# Altium integrated library TI Data Converters Analog to Digital Converter.IntLib: 2198 symbols (part 136 of 164)
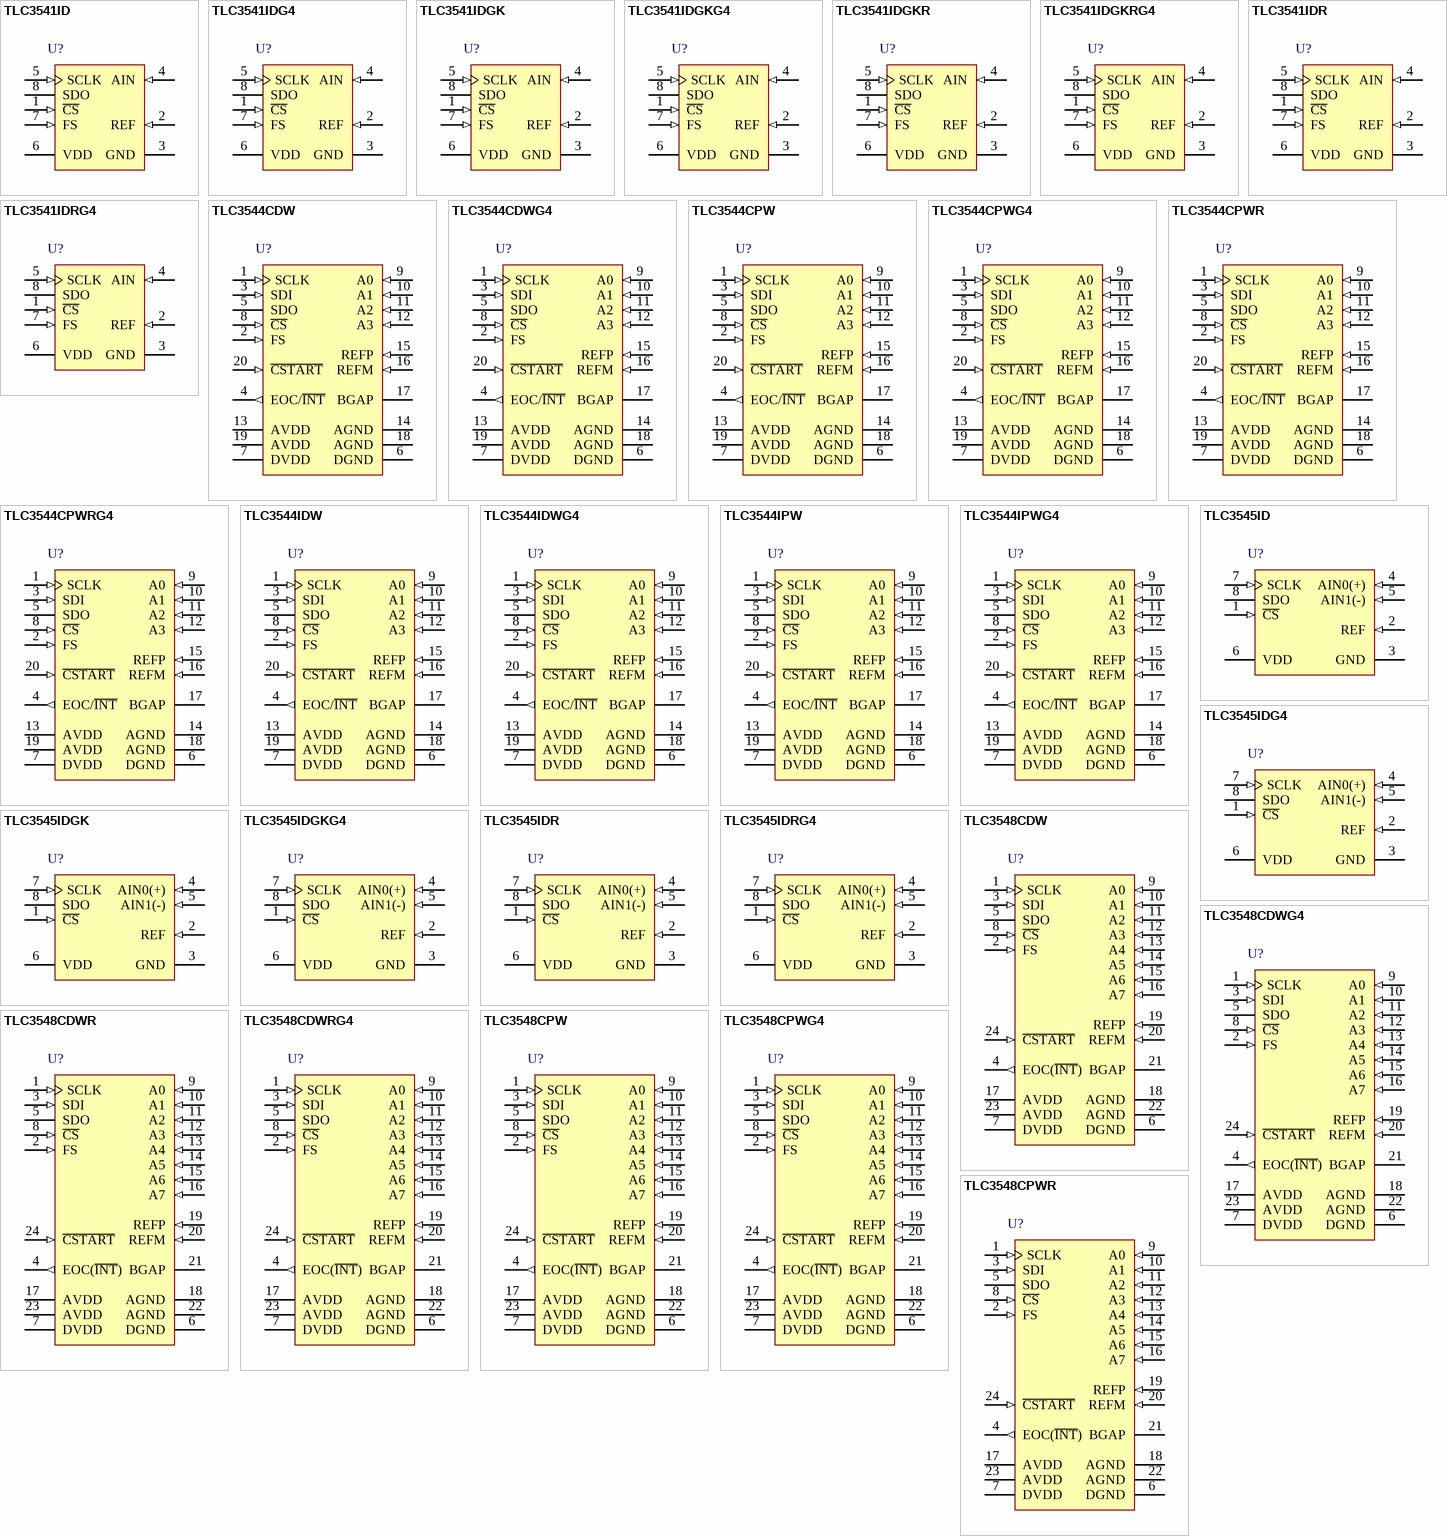
[diagram p261: symbols TLC3541ID to TLC3548CPWR]

## TLC3544IPWG4
designator U?
14-Bit, 5 V, 200 kSPS, 4-Channel Unipolar ADC, -40 to 85 degC, 20-pin SOP (PW20), Green (RoHS & no Sb/Br); Manufacturer: Texas Instruments; PartNumber: TLC3544IPWG4; # Input Channels: 4; Analog Voltage AV/DD(Max)(V): 5.5; Analog Voltage AV/DD(Min)(V): 4.5; Architecture: SAR; Digital Supply(Min)(V): 2.7; ENOB(Bits): 13.1; INL(Max)(+/-LSB): 1; Interface: Serial SPI; Resolution(Bits): 14; Sample Rate (max)(SPS): 200k; SFDR(dB): 97; SINAD(dB): 80.8; SNR(dB): 81; SubFamily: Precision ADC (<=10MSPS); DatasheetVersion: SLAS266C; PackageVersion: 4040064-5/G, 02/2011; PackageReference: PW20; PackageDescription: 20-Pin Plastic Small Outline, Body 6.5 x 4.4 mm, Pitch 0.65 mm; Supplier 1: Digi-Key; Supplier Part Number 1: 296-2858-5-ND; Digital Supply(Max)(V): 5.5; Eco-Plan: Green (RoHS & no Sb/Br); Mounting Technology: Surface Mount; Code_JEDEC: MO-153; ComponentLink1Description: Manufacturer URL; ComponentLink1URL: http://www.ti.com/; ComponentLink2Description: Datasheet; ComponentLink2URL: http://www.ti.com/general/docs/lit/getliterature.tsp?genericPartNumber=TLC3544&fileType=pdf; ComponentLink3Description: Package Specification; ComponentLink3URL: http://www.ti.com.cn/cn/lit/ml/mpds362/mpds362.pdf
footprint TI-PW20_N (SOP, 20-Leads, Body 6.5x4.4mm, Pitch 0.65mm, IPC Medium Density)
footprint TI-PW20_L (SOP, 20-Leads, Body 6.5x4.4mm, Pitch 0.65mm, IPC High Density)
footprint TI-PW20_M (SOP, 20-Leads, Body 6.5x4.4mm, Pitch 0.65mm, IPC Low Density)
pins: 1 SCLK (in) "Serial clock input from the host processor to clock in the input from SDI and clock out the output via SDO. It can also be used as the conversion clock source when the external conversion clock is selected (see Table 2). (See Datasheet)", 2 FS (in) "Frame sync input from DSP. The rising edge of FS indicates the start of a serial data frame being transferred (coming into or being sent out of the device). If FS is low at the falling edge of C\S\, the rising edge of FS (See Datasheet)", 3 SDI (in) "Serial data input. The first 4 MSBs, ID[15:12], are decoded as one 4-bit command. All trailing bits, except for the CONFIGURE WRITE command, are filled with zeros. The CONFIGURE WRITE command requires additional 12-bit data. (See Datasheet)", 4 EOC/~{INT} (out), 5 SDO (hiz) "The 3-state serial output for the A/D conversion result. All data bits are shifted out through SDO. SDO is in the high-impedance state when C\S\ is high. SDO is released after a C\S\ falling edge. The output format is MSB (See Datasheet)", 6 DGND (power) "Digital ground return for the internal circuitry", 7 DVDD (power) "Digital supply voltage", 8 ~{CS} (in) "Chip select. When C\S\ is high, SDO is in high-impedance state, SDI is ignored, and SCLK is disabled to clock data but works as conversion clock source if programmed. The falling edge of C\S\ input resets the internal 4-bit (See Datasheet)", 9 A0 (in) "Analog signal inputs. Analog input signals applied to these terminals are internally multiplexed. The driving source impedance should be less than or equal to 1 kohm for normal sampling. For larger source impedance, use the (See Datasheet)", 10 A1 (in) "Analog signal inputs. Analog input signals applied to these terminals are internally multiplexed. The driving source impedance should be less than or equal to 1 kohm for normal sampling. For larger source impedance, use the (See Datasheet)", 11 A2 (in) "Analog signal inputs. Analog input signals applied to these terminals are internally multiplexed. The driving source impedance should be less than or equal to 1 kohm for normal sampling. For larger source impedance, use the (See Datasheet)", 12 A3 (in) "Analog signal inputs. Analog input signals applied to these terminals are internally multiplexed. The driving source impedance should be less than or equal to 1 kohm for normal sampling. For larger source impedance, use the (See Datasheet)", 13 AVDD (power) "Analog supply voltage", 14 AGND (power) "Analog ground return for the internal circuitry. Unless otherwise noted, all analog voltage measurements are with respect to AGND.", 15 REFP (in) "External positive reference input. When an external reference is used, the range of maximum input voltage is determined by the difference between the voltage applied to this terminal and to the REFM terminal. Always install (See Datasheet)", 16 REFM (in) "External low reference input. Connect REFM to AGND.", 17 BGAP "Internal bandgap compensation pin. Install compensation capacitors between BGAP and AGND. 0.1 uF for external reference; 10 uF in parallel with 0.1 uF for internal reference.", 18 AGND (power) "Analog ground return for the internal circuitry. Unless otherwise noted, all analog voltage measurements are with respect to AGND.", 19 AVDD (power) "Analog supply voltage", 20 ~{CSTART} (in) "External sampling trigger signal, which initiates the sampling from a selected analog input channel when the device works in extended sampling mode (asynchronous sampling). A high-to-low transition starts the sampling of the (See Datasheet)"

## TLC3545ID
designator U?
14-Bit 200 kSPS ADC Serial Out, Auto Power Down, Pseudo Differential Input, -40 to 85 degC, 8-pin SOIC (D8), Green (RoHS & no Sb/Br); Manufacturer: Texas Instruments; PartNumber: TLC3545ID; # Input Channels: 1; Analog Voltage AV/DD(Max)(V): 5.5; Analog Voltage AV/DD(Min)(V): 4.5; Architecture: SAR; ENOB(Bits): 13.2; Interface: Serial SPI; Resolution(Bits): 14; Sample Rate (max)(SPS): 200k; SFDR(dB): 95; SINAD(dB): 81.5; SNR(dB): 82; SubFamily: Precision ADC (<=10MSPS); DatasheetVersion: SLAS345; PackageVersion: 4040047-3/M, 06/2011; PackageReference: D8; PackageDescription: 8-Pin Plastic Small Outline, Body 4.9 x 3.9 mm, Pitch 1.27 mm; Supplier 1: Digi-Key; Supplier Part Number 1: TLC0832CPE4-ND; Digital Supply(Max)(V): 5.5; Digital Supply(Min)(V): 4.5; Eco-Plan: Green (RoHS & no Sb/Br); INL(Max)(+/-LSB): 1; Mounting Technology: Surface Mount; Code_JEDEC: MS-012; ComponentLink1Description: Manufacturer URL; ComponentLink1URL: http://www.ti.com/; ComponentLink2Description: Datasheet; ComponentLink2URL: http://www.ti.com/general/docs/lit/getliterature.tsp?genericPartNumber=TLC3545&fileType=pdf; ComponentLink3Description: Package Specification; ComponentLink3URL: http://www.ti.com/litv/pdf/msoi002j
footprint TI-D8_N (SOIC, 8-Leads, Body 4.9x3.9mm, Pitch 1.27mm, IPC Medium Density)
footprint TI-D8_L (SOIC, 8-Leads, Body 4.9x3.9mm, Pitch 1.27mm, IPC High Density)
footprint TI-D8_M (SOIC, 8-Leads, Body 4.9x3.9mm, Pitch 1.27mm, IPC Low Density)
pins: 1 ~{CS} (in) "Chip select. A high-to-low transition on C\S\ removes SDO from the high-impedance state within a maximum delay time. The C\S\ input can be connected to a DSP frame sync (FS) output when a dedicated TMS320 DSP serial port is (See Datasheet)", 2 REF (in) "External voltage reference input", 3 GND (power) "Ground return for the internal circuitry. Unless otherwise noted, all voltage measurements are with respect to GND.", 4 AIN0(+) (in) "Positive analog input", 5 AIN1(-) (in) "Inverted analog input", 6 VDD (power) "Positive supply voltage", 7 SCLK (in) "Serial clock. This terminal receives the serial SCLK from the host processor.", 8 SDO (hiz) "The 3-state serial data output for the A/D conversion result. SDO is kept in the high-impedance state when C\S\ is high and presents output data after the C\S\ falling edge until the LSB is presented. The output format is (See Datasheet)"

## TLC3545IDG4
designator U?
14-Bit 200 kSPS ADC Serial Out, Auto Power Down, Pseudo Differential Input, -40 to 85 degC, 8-pin SOIC (D8), Green (RoHS & no Sb/Br); Manufacturer: Texas Instruments; PartNumber: TLC3545IDG4; # Input Channels: 1; Analog Voltage AV/DD(Max)(V): 5.5; Analog Voltage AV/DD(Min)(V): 4.5; Architecture: SAR; ENOB(Bits): 13.2; Interface: Serial SPI; Resolution(Bits): 14; Sample Rate (max)(SPS): 200k; SFDR(dB): 95; SINAD(dB): 81.5; SNR(dB): 82; SubFamily: Precision ADC (<=10MSPS); DatasheetVersion: SLAS345; PackageVersion: 4040047-3/M, 06/2011; PackageReference: D8; PackageDescription: 8-Pin Plastic Small Outline, Body 4.9 x 3.9 mm, Pitch 1.27 mm; Supplier 1: Digi-Key; Supplier Part Number 1: 296-2859-5-ND; Digital Supply(Max)(V): 5.5; Digital Supply(Min)(V): 4.5; Eco-Plan: Green (RoHS & no Sb/Br); INL(Max)(+/-LSB): 1; Mounting Technology: Surface Mount; Code_JEDEC: MS-012; ComponentLink1Description: Manufacturer URL; ComponentLink1URL: http://www.ti.com/; ComponentLink2Description: Datasheet; ComponentLink2URL: http://www.ti.com/general/docs/lit/getliterature.tsp?genericPartNumber=TLC3545&fileType=pdf; ComponentLink3Description: Package Specification; ComponentLink3URL: http://www.ti.com/litv/pdf/msoi002j
footprint TI-D8_N (SOIC, 8-Leads, Body 4.9x3.9mm, Pitch 1.27mm, IPC Medium Density)
footprint TI-D8_L (SOIC, 8-Leads, Body 4.9x3.9mm, Pitch 1.27mm, IPC High Density)
footprint TI-D8_M (SOIC, 8-Leads, Body 4.9x3.9mm, Pitch 1.27mm, IPC Low Density)
pins: 1 ~{CS} (in) "Chip select. A high-to-low transition on C\S\ removes SDO from the high-impedance state within a maximum delay time. The C\S\ input can be connected to a DSP frame sync (FS) output when a dedicated TMS320 DSP serial port is (See Datasheet)", 2 REF (in) "External voltage reference input", 3 GND (power) "Ground return for the internal circuitry. Unless otherwise noted, all voltage measurements are with respect to GND.", 4 AIN0(+) (in) "Positive analog input", 5 AIN1(-) (in) "Inverted analog input", 6 VDD (power) "Positive supply voltage", 7 SCLK (in) "Serial clock. This terminal receives the serial SCLK from the host processor.", 8 SDO (hiz) "The 3-state serial data output for the A/D conversion result. SDO is kept in the high-impedance state when C\S\ is high and presents output data after the C\S\ falling edge until the LSB is presented. The output format is (See Datasheet)"

## TLC3545IDGK
designator U?
14-Bit 200 kSPS ADC Serial Out, Auto Power Down, Pseudo Differential Input, -40 to 85 degC, 8-pin SOP (DGK8), Green (RoHS & no Sb/Br); Manufacturer: Texas Instruments; PartNumber: TLC3545IDGK; # Input Channels: 1; Analog Voltage AV/DD(Max)(V): 5.5; Analog Voltage AV/DD(Min)(V): 4.5; Architecture: SAR; ENOB(Bits): 13.2; Interface: Serial SPI; Resolution(Bits): 14; Sample Rate (max)(SPS): 200k; SFDR(dB): 95; SINAD(dB): 81.5; SNR(dB): 82; SubFamily: Precision ADC (<=10MSPS); DatasheetVersion: SLAS345; PackageVersion: 4073329/E, 05/2006; PackageReference: DGK8; PackageDescription: 8-Pin Thin Small Outline, Body 3 x 3 mm, Pitch 0.65 mm; Supplier 1: Digi-Key; Supplier Part Number 1: TLC0832IDG4-ND; Digital Supply(Max)(V): 5.5; Digital Supply(Min)(V): 4.5; Eco-Plan: Green (RoHS & no Sb/Br); INL(Max)(+/-LSB): 1; Mounting Technology: Surface Mount; Code_JEDEC: MO-187; ComponentLink1Description: Manufacturer URL; ComponentLink1URL: http://www.ti.com/; ComponentLink2Description: Datasheet; ComponentLink2URL: http://www.ti.com/general/docs/lit/getliterature.tsp?genericPartNumber=TLC3545&fileType=pdf; ComponentLink3Description: Package Specification; ComponentLink3URL: http://www.ti.com/litv/pdf/mpds028d
footprint TI-DGK8_N (SOP, 8-Leads, Body 3x3mm, Pitch 0.65mm, IPC Medium Density)
footprint TI-DGK8_L (SOP, 8-Leads, Body 3x3mm, Pitch 0.65mm, IPC High Density)
footprint TI-DGK8_M (SOP, 8-Leads, Body 3x3mm, Pitch 0.65mm, IPC Low Density)
pins: 1 ~{CS} (in) "Chip select. A high-to-low transition on C\S\ removes SDO from the high-impedance state within a maximum delay time. The C\S\ input can be connected to a DSP frame sync (FS) output when a dedicated TMS320 DSP serial port is (See Datasheet)", 2 REF (in) "External voltage reference input", 3 GND (power) "Ground return for the internal circuitry. Unless otherwise noted, all voltage measurements are with respect to GND.", 4 AIN0(+) (in) "Positive analog input", 5 AIN1(-) (in) "Inverted analog input", 6 VDD (power) "Positive supply voltage", 7 SCLK (in) "Serial clock. This terminal receives the serial SCLK from the host processor.", 8 SDO (hiz) "The 3-state serial data output for the A/D conversion result. SDO is kept in the high-impedance state when C\S\ is high and presents output data after the C\S\ falling edge until the LSB is presented. The output format is (See Datasheet)"

## TLC3545IDGKG4
designator U?
14-Bit 200 kSPS ADC Serial Out, Auto Power Down, Pseudo Differential Input, -40 to 85 degC, 8-pin SOP (DGK8), Green (RoHS & no Sb/Br); Manufacturer: Texas Instruments; PartNumber: TLC3545IDGKG4; # Input Channels: 1; Analog Voltage AV/DD(Max)(V): 5.5; Analog Voltage AV/DD(Min)(V): 4.5; Architecture: SAR; ENOB(Bits): 13.2; Interface: Serial SPI; Resolution(Bits): 14; Sample Rate (max)(SPS): 200k; SFDR(dB): 95; SINAD(dB): 81.5; SNR(dB): 82; SubFamily: Precision ADC (<=10MSPS); DatasheetVersion: SLAS345; PackageVersion: 4073329/E, 05/2006; PackageReference: DGK8; PackageDescription: 8-Pin Thin Small Outline, Body 3 x 3 mm, Pitch 0.65 mm; Supplier 1: Digi-Key; Supplier Part Number 1: TLC0832IDR-ND; Digital Supply(Max)(V): 5.5; Digital Supply(Min)(V): 4.5; Eco-Plan: Green (RoHS & no Sb/Br); INL(Max)(+/-LSB): 1; Mounting Technology: Surface Mount; Code_JEDEC: MO-187; ComponentLink1Description: Manufacturer URL; ComponentLink1URL: http://www.ti.com/; ComponentLink2Description: Datasheet; ComponentLink2URL: http://www.ti.com/general/docs/lit/getliterature.tsp?genericPartNumber=TLC3545&fileType=pdf; ComponentLink3Description: Package Specification; ComponentLink3URL: http://www.ti.com/litv/pdf/mpds028d
footprint TI-DGK8_N (SOP, 8-Leads, Body 3x3mm, Pitch 0.65mm, IPC Medium Density)
footprint TI-DGK8_L (SOP, 8-Leads, Body 3x3mm, Pitch 0.65mm, IPC High Density)
footprint TI-DGK8_M (SOP, 8-Leads, Body 3x3mm, Pitch 0.65mm, IPC Low Density)
pins: 1 ~{CS} (in) "Chip select. A high-to-low transition on C\S\ removes SDO from the high-impedance state within a maximum delay time. The C\S\ input can be connected to a DSP frame sync (FS) output when a dedicated TMS320 DSP serial port is (See Datasheet)", 2 REF (in) "External voltage reference input", 3 GND (power) "Ground return for the internal circuitry. Unless otherwise noted, all voltage measurements are with respect to GND.", 4 AIN0(+) (in) "Positive analog input", 5 AIN1(-) (in) "Inverted analog input", 6 VDD (power) "Positive supply voltage", 7 SCLK (in) "Serial clock. This terminal receives the serial SCLK from the host processor.", 8 SDO (hiz) "The 3-state serial data output for the A/D conversion result. SDO is kept in the high-impedance state when C\S\ is high and presents output data after the C\S\ falling edge until the LSB is presented. The output format is (See Datasheet)"

## TLC3545IDR
designator U?
14-Bit 200 kSPS ADC Serial Out, Auto Power Down, Pseudo Differential Input, -40 to 85 degC, 8-pin SOIC (D8), Green (RoHS & no Sb/Br); Manufacturer: Texas Instruments; PartNumber: TLC3545IDR; # Input Channels: 1; Analog Voltage AV/DD(Max)(V): 5.5; Analog Voltage AV/DD(Min)(V): 4.5; Architecture: SAR; ENOB(Bits): 13.2; Interface: Serial SPI; Resolution(Bits): 14; Sample Rate (max)(SPS): 200k; SFDR(dB): 95; SINAD(dB): 81.5; SNR(dB): 82; SubFamily: Precision ADC (<=10MSPS); DatasheetVersion: SLAS345; PackageVersion: 4040047-3/M, 06/2011; PackageReference: D8; PackageDescription: 8-Pin Plastic Small Outline, Body 4.9 x 3.9 mm, Pitch 1.27 mm; Supplier 1: Digi-Key; Supplier Part Number 1: TLC0832IDRG4-ND; Digital Supply(Max)(V): 5.5; Digital Supply(Min)(V): 4.5; Eco-Plan: Green (RoHS & no Sb/Br); INL(Max)(+/-LSB): 1; Mounting Technology: Surface Mount; Code_JEDEC: MS-012; ComponentLink1Description: Manufacturer URL; ComponentLink1URL: http://www.ti.com/; ComponentLink2Description: Datasheet; ComponentLink2URL: http://www.ti.com/general/docs/lit/getliterature.tsp?genericPartNumber=TLC3545&fileType=pdf; ComponentLink3Description: Package Specification; ComponentLink3URL: http://www.ti.com/litv/pdf/msoi002j
footprint TI-D8_N (SOIC, 8-Leads, Body 4.9x3.9mm, Pitch 1.27mm, IPC Medium Density)
footprint TI-D8_L (SOIC, 8-Leads, Body 4.9x3.9mm, Pitch 1.27mm, IPC High Density)
footprint TI-D8_M (SOIC, 8-Leads, Body 4.9x3.9mm, Pitch 1.27mm, IPC Low Density)
pins: 1 ~{CS} (in) "Chip select. A high-to-low transition on C\S\ removes SDO from the high-impedance state within a maximum delay time. The C\S\ input can be connected to a DSP frame sync (FS) output when a dedicated TMS320 DSP serial port is (See Datasheet)", 2 REF (in) "External voltage reference input", 3 GND (power) "Ground return for the internal circuitry. Unless otherwise noted, all voltage measurements are with respect to GND.", 4 AIN0(+) (in) "Positive analog input", 5 AIN1(-) (in) "Inverted analog input", 6 VDD (power) "Positive supply voltage", 7 SCLK (in) "Serial clock. This terminal receives the serial SCLK from the host processor.", 8 SDO (hiz) "The 3-state serial data output for the A/D conversion result. SDO is kept in the high-impedance state when C\S\ is high and presents output data after the C\S\ falling edge until the LSB is presented. The output format is (See Datasheet)"

## TLC3545IDRG4
designator U?
14-Bit 200 kSPS ADC Serial Out, Auto Power Down, Pseudo Differential Input, -40 to 85 degC, 8-pin SOIC (D8), Green (RoHS & no Sb/Br); Manufacturer: Texas Instruments; PartNumber: TLC3545IDRG4; # Input Channels: 1; Analog Voltage AV/DD(Max)(V): 5.5; Analog Voltage AV/DD(Min)(V): 4.5; Architecture: SAR; ENOB(Bits): 13.2; Interface: Serial SPI; Resolution(Bits): 14; Sample Rate (max)(SPS): 200k; SFDR(dB): 95; SINAD(dB): 81.5; SNR(dB): 82; SubFamily: Precision ADC (<=10MSPS); DatasheetVersion: SLAS345; PackageVersion: 4040047-3/M, 06/2011; PackageReference: D8; PackageDescription: 8-Pin Plastic Small Outline, Body 4.9 x 3.9 mm, Pitch 1.27 mm; Supplier 1: Digi-Key; Supplier Part Number 1: 296-2860-5-ND; Digital Supply(Max)(V): 5.5; Digital Supply(Min)(V): 4.5; Eco-Plan: Green (RoHS & no Sb/Br); INL(Max)(+/-LSB): 1; Mounting Technology: Surface Mount; Code_JEDEC: MS-012; ComponentLink1Description: Manufacturer URL; ComponentLink1URL: http://www.ti.com/; ComponentLink2Description: Datasheet; ComponentLink2URL: http://www.ti.com/general/docs/lit/getliterature.tsp?genericPartNumber=TLC3545&fileType=pdf; ComponentLink3Description: Package Specification; ComponentLink3URL: http://www.ti.com/litv/pdf/msoi002j
footprint TI-D8_N (SOIC, 8-Leads, Body 4.9x3.9mm, Pitch 1.27mm, IPC Medium Density)
footprint TI-D8_L (SOIC, 8-Leads, Body 4.9x3.9mm, Pitch 1.27mm, IPC High Density)
footprint TI-D8_M (SOIC, 8-Leads, Body 4.9x3.9mm, Pitch 1.27mm, IPC Low Density)
pins: 1 ~{CS} (in) "Chip select. A high-to-low transition on C\S\ removes SDO from the high-impedance state within a maximum delay time. The C\S\ input can be connected to a DSP frame sync (FS) output when a dedicated TMS320 DSP serial port is (See Datasheet)", 2 REF (in) "External voltage reference input", 3 GND (power) "Ground return for the internal circuitry. Unless otherwise noted, all voltage measurements are with respect to GND.", 4 AIN0(+) (in) "Positive analog input", 5 AIN1(-) (in) "Inverted analog input", 6 VDD (power) "Positive supply voltage", 7 SCLK (in) "Serial clock. This terminal receives the serial SCLK from the host processor.", 8 SDO (hiz) "The 3-state serial data output for the A/D conversion result. SDO is kept in the high-impedance state when C\S\ is high and presents output data after the C\S\ falling edge until the LSB is presented. The output format is (See Datasheet)"

## TLC3548CDW
designator U?
14-Bit, 5 V, 200 kSPS, 8-Channel Unipolar ADC, 0 to 70 degC, 24-pin SOIC (DW24), Green (RoHS & no Sb/Br); Manufacturer: Texas Instruments; PartNumber: TLC3548CDW; # Input Channels: 8; Analog Voltage AV/DD(Max)(V): 5.5; Analog Voltage AV/DD(Min)(V): 4.5; Architecture: SAR; Digital Supply(Min)(V): 2.7; ENOB(Bits): 13.1; INL(Max)(+/-LSB): 1; Interface: Serial SPI; Resolution(Bits): 14; Sample Rate (max)(SPS): 200k; SFDR(dB): 97; SINAD(dB): 80.8; SNR(dB): 81; SubFamily: Precision ADC (<=10MSPS); DatasheetVersion: SLAS266C; PackageVersion: 4040000-5/G, 01/2011; PackageReference: DW24; PackageDescription: 24-Pin Plastic Small Outline, Body 15.4 x 7.5 mm, Pitch 1.27 mm; Supplier 1: Digi-Key; Supplier Part Number 1: TLC0832IPE4-ND; Digital Supply(Max)(V): 5.5; Eco-Plan: Green (RoHS & no Sb/Br); Mounting Technology: Surface Mount; Code_JEDEC: MS-013; ComponentLink1Description: Manufacturer URL; ComponentLink1URL: http://www.ti.com/; ComponentLink2Description: Datasheet; ComponentLink2URL: http://www.ti.com/general/docs/lit/getliterature.tsp?genericPartNumber=TLC3548&fileType=pdf; ComponentLink3Description: Package Specification; ComponentLink3URL: http://www.ti.com/litv/pdf/mpds174a
footprint TI-DW24_N (SOIC, 24-Leads, Body 15.4x7.5mm, Pitch 1.27mm, IPC Medium Density)
footprint TI-DW24_L (SOIC, 24-Leads, Body 15.4x7.5mm, Pitch 1.27mm, IPC High Density)
footprint TI-DW24_M (SOIC, 24-Leads, Body 15.4x7.5mm, Pitch 1.27mm, IPC Low Density)
pins: 1 SCLK (in) "Serial clock input from the host processor to clock in the input from SDI and clock out the output via SDO. It can also be used as the conversion clock source when the external conversion clock is selected (see Table 2). (See Datasheet)", 2 FS (in) "Frame sync input from DSP. The rising edge of FS indicates the start of a serial data frame being transferred (coming into or being sent out of the device). If FS is low at the falling edge of C\S\, the rising edge of FS (See Datasheet)", 3 SDI (in) "Serial data input. The first 4 MSBs, ID[15:12], are decoded as one 4-bit command. All trailing bits,except for the CONFIGURE WRITE command, are filled with zeros. The CONFIGURE WRITE command requires additional 12-bit data. (See Datasheet)", 4 EOC(~{INT}) (out) "End of conversion (EOC) or interrupt to host processor (I\N\T\) EOC: used in conversion mode 00 only. EOC goes from high to low at the end of the sampling and remains low until the conversion is complete and data is ready.(See Datasheet)", 5 SDO (hiz) "The 3-state serial output for the A/D conversion result. All data bits are shifted out through SDO.SDO is in the high-impedance state when C\S\ is high. SDO is released after a C\S\ falling edge. The output format is MSB (See Datasheet)", 6 DGND (power) "Digital ground return for the internal circuitry", 7 DVDD (power) "Digital supply voltage", 8 ~{CS} (in) "Chip select. When C\S\ is high, SDO is in high-impedance state, SDI is ignored, and SCLK is disabled to clock data but works as conversion clock source if programmed. The falling edge of C\S\ input resets the internal 4-bit (See Datasheet)", 9 A0 (in) "Analog signal inputs. Analog input signals applied to these terminals are internally multiplexed. The driving source impedance should be less than or equal to 1 kO for normal sampling. For larger source impedance, use the (See Datasheet)", 10 A1 (in) "Analog signal inputs. Analog input signals applied to these terminals are internally multiplexed. The driving source impedance should be less than or equal to 1 kO for normal sampling. For larger source impedance, use the (See Datasheet)", 11 A2 (in) "Analog signal inputs. Analog input signals applied to these terminals are internally multiplexed. The driving source impedance should be less than or equal to 1 kO for normal sampling. For larger source impedance, use the (See Datasheet)", 12 A3 (in) "Analog signal inputs. Analog input signals applied to these terminals are internally multiplexed. The driving source impedance should be less than or equal to 1 kO for normal sampling. For larger source impedance, use the (See Datasheet)", 13 A4 (in) "Analog signal inputs. Analog input signals applied to these terminals are internally multiplexed. The driving source impedance should be less than or equal to 1 kO for normal sampling. For larger source impedance, use the (See Datasheet)", 14 A5 (in) "Analog signal inputs. Analog input signals applied to these terminals are internally multiplexed. The driving source impedance should be less than or equal to 1 kO for normal sampling. For larger source impedance, use the (See Datasheet)", 15 A6 (in) "Analog signal inputs. Analog input signals applied to these terminals are internally multiplexed. The driving source impedance should be less than or equal to 1 kO for normal sampling. For larger source impedance, use the (See Datasheet)", 16 A7 (in) "Analog signal inputs. Analog input signals applied to these terminals are internally multiplexed. The driving source impedance should be less than or equal to 1 kO for normal sampling. For larger source impedance, use the (See Datasheet)", 17 AVDD (power) "Analog supply voltage", 18 AGND (power) "Analog ground return for the internal circuitry. Unless otherwise noted, all analog voltage measurements are with respect to AGND.", 19 REFP (in) "External positive reference input. When an external reference is used, the range of maximum input voltage is determined by the difference between the voltage applied to this terminal and to the REFM terminal. Always install (See Datasheet)", 20 REFM (in) "External low reference input. Connect REFM to AGND.", 21 BGAP "Internal bandgap compensation pin. Install compensation capacitors between BGAP and AGND.0.1 uF for external reference; 10 uF in parallel with 0.1 uF for internal reference.", 22 AGND (power) "Analog ground return for the internal circuitry. Unless otherwise noted, all analog voltage measurements are with respect to AGND.", 23 AVDD (power) "Analog supply voltage", 24 ~{CSTART} (in) "External sampling trigger signal, which initiates the sampling from a selected analog input channel when the device works in extended sampling mode (asynchronous sampling). A high-to-low transition starts the sampling of the (See Datasheet)"

## TLC3548CDWG4
designator U?
14-Bit, 5 V, 200 kSPS, 8-Channel Unipolar ADC, 0 to 70 degC, 24-pin SOIC (DW24), Green (RoHS & no Sb/Br); Manufacturer: Texas Instruments; PartNumber: TLC3548CDWG4; # Input Channels: 8; Analog Voltage AV/DD(Max)(V): 5.5; Analog Voltage AV/DD(Min)(V): 4.5; Architecture: SAR; Digital Supply(Min)(V): 2.7; ENOB(Bits): 13.1; INL(Max)(+/-LSB): 1; Interface: Serial SPI; Resolution(Bits): 14; Sample Rate (max)(SPS): 200k; SFDR(dB): 97; SINAD(dB): 80.8; SNR(dB): 81; SubFamily: Precision ADC (<=10MSPS); DatasheetVersion: SLAS266C; PackageVersion: 4040000-5/G, 01/2011; PackageReference: DW24; PackageDescription: 24-Pin Plastic Small Outline, Body 15.4 x 7.5 mm, Pitch 1.27 mm; Supplier 1: Digi-Key; Supplier Part Number 1: 296-2865-5-ND; Digital Supply(Max)(V): 5.5; Eco-Plan: Green (RoHS & no Sb/Br); Mounting Technology: Surface Mount; Code_JEDEC: MS-013; ComponentLink1Description: Manufacturer URL; ComponentLink1URL: http://www.ti.com/; ComponentLink2Description: Datasheet; ComponentLink2URL: http://www.ti.com/general/docs/lit/getliterature.tsp?genericPartNumber=TLC3548&fileType=pdf; ComponentLink3Description: Package Specification; ComponentLink3URL: http://www.ti.com/litv/pdf/mpds174a
footprint TI-DW24_N (SOIC, 24-Leads, Body 15.4x7.5mm, Pitch 1.27mm, IPC Medium Density)
footprint TI-DW24_L (SOIC, 24-Leads, Body 15.4x7.5mm, Pitch 1.27mm, IPC High Density)
footprint TI-DW24_M (SOIC, 24-Leads, Body 15.4x7.5mm, Pitch 1.27mm, IPC Low Density)
pins: 1 SCLK (in) "Serial clock input from the host processor to clock in the input from SDI and clock out the output via SDO. It can also be used as the conversion clock source when the external conversion clock is selected (see Table 2). (See Datasheet)", 2 FS (in) "Frame sync input from DSP. The rising edge of FS indicates the start of a serial data frame being transferred (coming into or being sent out of the device). If FS is low at the falling edge of C\S\, the rising edge of FS (See Datasheet)", 3 SDI (in) "Serial data input. The first 4 MSBs, ID[15:12], are decoded as one 4-bit command. All trailing bits,except for the CONFIGURE WRITE command, are filled with zeros. The CONFIGURE WRITE command requires additional 12-bit data. (See Datasheet)", 4 EOC(~{INT}) (out) "End of conversion (EOC) or interrupt to host processor (I\N\T\) EOC: used in conversion mode 00 only. EOC goes from high to low at the end of the sampling and remains low until the conversion is complete and data is ready.(See Datasheet)", 5 SDO (hiz) "The 3-state serial output for the A/D conversion result. All data bits are shifted out through SDO.SDO is in the high-impedance state when C\S\ is high. SDO is released after a C\S\ falling edge. The output format is MSB (See Datasheet)", 6 DGND (power) "Digital ground return for the internal circuitry", 7 DVDD (power) "Digital supply voltage", 8 ~{CS} (in) "Chip select. When C\S\ is high, SDO is in high-impedance state, SDI is ignored, and SCLK is disabled to clock data but works as conversion clock source if programmed. The falling edge of C\S\ input resets the internal 4-bit (See Datasheet)", 9 A0 (in) "Analog signal inputs. Analog input signals applied to these terminals are internally multiplexed. The driving source impedance should be less than or equal to 1 kO for normal sampling. For larger source impedance, use the (See Datasheet)", 10 A1 (in) "Analog signal inputs. Analog input signals applied to these terminals are internally multiplexed. The driving source impedance should be less than or equal to 1 kO for normal sampling. For larger source impedance, use the (See Datasheet)", 11 A2 (in) "Analog signal inputs. Analog input signals applied to these terminals are internally multiplexed. The driving source impedance should be less than or equal to 1 kO for normal sampling. For larger source impedance, use the (See Datasheet)", 12 A3 (in) "Analog signal inputs. Analog input signals applied to these terminals are internally multiplexed. The driving source impedance should be less than or equal to 1 kO for normal sampling. For larger source impedance, use the (See Datasheet)", 13 A4 (in) "Analog signal inputs. Analog input signals applied to these terminals are internally multiplexed. The driving source impedance should be less than or equal to 1 kO for normal sampling. For larger source impedance, use the (See Datasheet)", 14 A5 (in) "Analog signal inputs. Analog input signals applied to these terminals are internally multiplexed. The driving source impedance should be less than or equal to 1 kO for normal sampling. For larger source impedance, use the (See Datasheet)", 15 A6 (in) "Analog signal inputs. Analog input signals applied to these terminals are internally multiplexed. The driving source impedance should be less than or equal to 1 kO for normal sampling. For larger source impedance, use the (See Datasheet)", 16 A7 (in) "Analog signal inputs. Analog input signals applied to these terminals are internally multiplexed. The driving source impedance should be less than or equal to 1 kO for normal sampling. For larger source impedance, use the (See Datasheet)", 17 AVDD (power) "Analog supply voltage", 18 AGND (power) "Analog ground return for the internal circuitry. Unless otherwise noted, all analog voltage measurements are with respect to AGND.", 19 REFP (in) "External positive reference input. When an external reference is used, the range of maximum input voltage is determined by the difference between the voltage applied to this terminal and to the REFM terminal. Always install (See Datasheet)", 20 REFM (in) "External low reference input. Connect REFM to AGND.", 21 BGAP "Internal bandgap compensation pin. Install compensation capacitors between BGAP and AGND.0.1 uF for external reference; 10 uF in parallel with 0.1 uF for internal reference.", 22 AGND (power) "Analog ground return for the internal circuitry. Unless otherwise noted, all analog voltage measurements are with respect to AGND.", 23 AVDD (power) "Analog supply voltage", 24 ~{CSTART} (in) "External sampling trigger signal, which initiates the sampling from a selected analog input channel when the device works in extended sampling mode (asynchronous sampling). A high-to-low transition starts the sampling of the (See Datasheet)"

## TLC3548CDWR
designator U?
14-Bit, 5 V, 200 kSPS, 8-Channel Unipolar ADC, 0 to 70 degC, 24-pin SOIC (DW24), Green (RoHS & no Sb/Br); Manufacturer: Texas Instruments; PartNumber: TLC3548CDWR; # Input Channels: 8; Analog Voltage AV/DD(Max)(V): 5.5; Analog Voltage AV/DD(Min)(V): 4.5; Architecture: SAR; Digital Supply(Min)(V): 2.7; ENOB(Bits): 13.1; INL(Max)(+/-LSB): 1; Interface: Serial SPI; Resolution(Bits): 14; Sample Rate (max)(SPS): 200k; SFDR(dB): 97; SINAD(dB): 80.8; SNR(dB): 81; SubFamily: Precision ADC (<=10MSPS); DatasheetVersion: SLAS266C; PackageVersion: 4040000-5/G, 01/2011; PackageReference: DW24; PackageDescription: 24-Pin Plastic Small Outline, Body 15.4 x 7.5 mm, Pitch 1.27 mm; Supplier 1: Digi-Key; Supplier Part Number 1: TLC0838CDWG4-ND; Digital Supply(Max)(V): 5.5; Eco-Plan: Green (RoHS & no Sb/Br); Mounting Technology: Surface Mount; Code_JEDEC: MS-013; ComponentLink1Description: Manufacturer URL; ComponentLink1URL: http://www.ti.com/; ComponentLink2Description: Datasheet; ComponentLink2URL: http://www.ti.com/general/docs/lit/getliterature.tsp?genericPartNumber=TLC3548&fileType=pdf; ComponentLink3Description: Package Specification; ComponentLink3URL: http://www.ti.com/litv/pdf/mpds174a
footprint TI-DW24_N (SOIC, 24-Leads, Body 15.4x7.5mm, Pitch 1.27mm, IPC Medium Density)
footprint TI-DW24_L (SOIC, 24-Leads, Body 15.4x7.5mm, Pitch 1.27mm, IPC High Density)
footprint TI-DW24_M (SOIC, 24-Leads, Body 15.4x7.5mm, Pitch 1.27mm, IPC Low Density)
pins: 1 SCLK (in) "Serial clock input from the host processor to clock in the input from SDI and clock out the output via SDO. It can also be used as the conversion clock source when the external conversion clock is selected (see Table 2). (See Datasheet)", 2 FS (in) "Frame sync input from DSP. The rising edge of FS indicates the start of a serial data frame being transferred (coming into or being sent out of the device). If FS is low at the falling edge of C\S\, the rising edge of FS (See Datasheet)", 3 SDI (in) "Serial data input. The first 4 MSBs, ID[15:12], are decoded as one 4-bit command. All trailing bits,except for the CONFIGURE WRITE command, are filled with zeros. The CONFIGURE WRITE command requires additional 12-bit data. (See Datasheet)", 4 EOC(~{INT}) (out) "End of conversion (EOC) or interrupt to host processor (I\N\T\) EOC: used in conversion mode 00 only. EOC goes from high to low at the end of the sampling and remains low until the conversion is complete and data is ready.(See Datasheet)", 5 SDO (hiz) "The 3-state serial output for the A/D conversion result. All data bits are shifted out through SDO.SDO is in the high-impedance state when C\S\ is high. SDO is released after a C\S\ falling edge. The output format is MSB (See Datasheet)", 6 DGND (power) "Digital ground return for the internal circuitry", 7 DVDD (power) "Digital supply voltage", 8 ~{CS} (in) "Chip select. When C\S\ is high, SDO is in high-impedance state, SDI is ignored, and SCLK is disabled to clock data but works as conversion clock source if programmed. The falling edge of C\S\ input resets the internal 4-bit (See Datasheet)", 9 A0 (in) "Analog signal inputs. Analog input signals applied to these terminals are internally multiplexed. The driving source impedance should be less than or equal to 1 kO for normal sampling. For larger source impedance, use the (See Datasheet)", 10 A1 (in) "Analog signal inputs. Analog input signals applied to these terminals are internally multiplexed. The driving source impedance should be less than or equal to 1 kO for normal sampling. For larger source impedance, use the (See Datasheet)", 11 A2 (in) "Analog signal inputs. Analog input signals applied to these terminals are internally multiplexed. The driving source impedance should be less than or equal to 1 kO for normal sampling. For larger source impedance, use the (See Datasheet)", 12 A3 (in) "Analog signal inputs. Analog input signals applied to these terminals are internally multiplexed. The driving source impedance should be less than or equal to 1 kO for normal sampling. For larger source impedance, use the (See Datasheet)", 13 A4 (in) "Analog signal inputs. Analog input signals applied to these terminals are internally multiplexed. The driving source impedance should be less than or equal to 1 kO for normal sampling. For larger source impedance, use the (See Datasheet)", 14 A5 (in) "Analog signal inputs. Analog input signals applied to these terminals are internally multiplexed. The driving source impedance should be less than or equal to 1 kO for normal sampling. For larger source impedance, use the (See Datasheet)", 15 A6 (in) "Analog signal inputs. Analog input signals applied to these terminals are internally multiplexed. The driving source impedance should be less than or equal to 1 kO for normal sampling. For larger source impedance, use the (See Datasheet)", 16 A7 (in) "Analog signal inputs. Analog input signals applied to these terminals are internally multiplexed. The driving source impedance should be less than or equal to 1 kO for normal sampling. For larger source impedance, use the (See Datasheet)", 17 AVDD (power) "Analog supply voltage", 18 AGND (power) "Analog ground return for the internal circuitry. Unless otherwise noted, all analog voltage measurements are with respect to AGND.", 19 REFP (in) "External positive reference input. When an external reference is used, the range of maximum input voltage is determined by the difference between the voltage applied to this terminal and to the REFM terminal. Always install (See Datasheet)", 20 REFM (in) "External low reference input. Connect REFM to AGND.", 21 BGAP "Internal bandgap compensation pin. Install compensation capacitors between BGAP and AGND.0.1 uF for external reference; 10 uF in parallel with 0.1 uF for internal reference.", 22 AGND (power) "Analog ground return for the internal circuitry. Unless otherwise noted, all analog voltage measurements are with respect to AGND.", 23 AVDD (power) "Analog supply voltage", 24 ~{CSTART} (in) "External sampling trigger signal, which initiates the sampling from a selected analog input channel when the device works in extended sampling mode (asynchronous sampling). A high-to-low transition starts the sampling of the (See Datasheet)"

## TLC3548CDWRG4
designator U?
14-Bit, 5 V, 200 kSPS, 8-Channel Unipolar ADC, 0 to 70 degC, 24-pin SOIC (DW24), Green (RoHS & no Sb/Br); Manufacturer: Texas Instruments; PartNumber: TLC3548CDWRG4; # Input Channels: 8; Analog Voltage AV/DD(Max)(V): 5.5; Analog Voltage AV/DD(Min)(V): 4.5; Architecture: SAR; Digital Supply(Min)(V): 2.7; ENOB(Bits): 13.1; INL(Max)(+/-LSB): 1; Interface: Serial SPI; Resolution(Bits): 14; Sample Rate (max)(SPS): 200k; SFDR(dB): 97; SINAD(dB): 80.8; SNR(dB): 81; SubFamily: Precision ADC (<=10MSPS); DatasheetVersion: SLAS266C; PackageVersion: 4040000-5/G, 01/2011; PackageReference: DW24; PackageDescription: 24-Pin Plastic Small Outline, Body 15.4 x 7.5 mm, Pitch 1.27 mm; Supplier 1: Digi-Key; Supplier Part Number 1: TLC0838CDWR-ND; Digital Supply(Max)(V): 5.5; Eco-Plan: Green (RoHS & no Sb/Br); Mounting Technology: Surface Mount; Code_JEDEC: MS-013; ComponentLink1Description: Manufacturer URL; ComponentLink1URL: http://www.ti.com/; ComponentLink2Description: Datasheet; ComponentLink2URL: http://www.ti.com/general/docs/lit/getliterature.tsp?genericPartNumber=TLC3548&fileType=pdf; ComponentLink3Description: Package Specification; ComponentLink3URL: http://www.ti.com/litv/pdf/mpds174a
footprint TI-DW24_N (SOIC, 24-Leads, Body 15.4x7.5mm, Pitch 1.27mm, IPC Medium Density)
footprint TI-DW24_L (SOIC, 24-Leads, Body 15.4x7.5mm, Pitch 1.27mm, IPC High Density)
footprint TI-DW24_M (SOIC, 24-Leads, Body 15.4x7.5mm, Pitch 1.27mm, IPC Low Density)
pins: 1 SCLK (in) "Serial clock input from the host processor to clock in the input from SDI and clock out the output via SDO. It can also be used as the conversion clock source when the external conversion clock is selected (see Table 2). (See Datasheet)", 2 FS (in) "Frame sync input from DSP. The rising edge of FS indicates the start of a serial data frame being transferred (coming into or being sent out of the device). If FS is low at the falling edge of C\S\, the rising edge of FS (See Datasheet)", 3 SDI (in) "Serial data input. The first 4 MSBs, ID[15:12], are decoded as one 4-bit command. All trailing bits,except for the CONFIGURE WRITE command, are filled with zeros. The CONFIGURE WRITE command requires additional 12-bit data. (See Datasheet)", 4 EOC(~{INT}) (out) "End of conversion (EOC) or interrupt to host processor (I\N\T\) EOC: used in conversion mode 00 only. EOC goes from high to low at the end of the sampling and remains low until the conversion is complete and data is ready.(See Datasheet)", 5 SDO (hiz) "The 3-state serial output for the A/D conversion result. All data bits are shifted out through SDO.SDO is in the high-impedance state when C\S\ is high. SDO is released after a C\S\ falling edge. The output format is MSB (See Datasheet)", 6 DGND (power) "Digital ground return for the internal circuitry", 7 DVDD (power) "Digital supply voltage", 8 ~{CS} (in) "Chip select. When C\S\ is high, SDO is in high-impedance state, SDI is ignored, and SCLK is disabled to clock data but works as conversion clock source if programmed. The falling edge of C\S\ input resets the internal 4-bit (See Datasheet)", 9 A0 (in) "Analog signal inputs. Analog input signals applied to these terminals are internally multiplexed. The driving source impedance should be less than or equal to 1 kO for normal sampling. For larger source impedance, use the (See Datasheet)", 10 A1 (in) "Analog signal inputs. Analog input signals applied to these terminals are internally multiplexed. The driving source impedance should be less than or equal to 1 kO for normal sampling. For larger source impedance, use the (See Datasheet)", 11 A2 (in) "Analog signal inputs. Analog input signals applied to these terminals are internally multiplexed. The driving source impedance should be less than or equal to 1 kO for normal sampling. For larger source impedance, use the (See Datasheet)", 12 A3 (in) "Analog signal inputs. Analog input signals applied to these terminals are internally multiplexed. The driving source impedance should be less than or equal to 1 kO for normal sampling. For larger source impedance, use the (See Datasheet)", 13 A4 (in) "Analog signal inputs. Analog input signals applied to these terminals are internally multiplexed. The driving source impedance should be less than or equal to 1 kO for normal sampling. For larger source impedance, use the (See Datasheet)", 14 A5 (in) "Analog signal inputs. Analog input signals applied to these terminals are internally multiplexed. The driving source impedance should be less than or equal to 1 kO for normal sampling. For larger source impedance, use the (See Datasheet)", 15 A6 (in) "Analog signal inputs. Analog input signals applied to these terminals are internally multiplexed. The driving source impedance should be less than or equal to 1 kO for normal sampling. For larger source impedance, use the (See Datasheet)", 16 A7 (in) "Analog signal inputs. Analog input signals applied to these terminals are internally multiplexed. The driving source impedance should be less than or equal to 1 kO for normal sampling. For larger source impedance, use the (See Datasheet)", 17 AVDD (power) "Analog supply voltage", 18 AGND (power) "Analog ground return for the internal circuitry. Unless otherwise noted, all analog voltage measurements are with respect to AGND.", 19 REFP (in) "External positive reference input. When an external reference is used, the range of maximum input voltage is determined by the difference between the voltage applied to this terminal and to the REFM terminal. Always install (See Datasheet)", 20 REFM (in) "External low reference input. Connect REFM to AGND.", 21 BGAP "Internal bandgap compensation pin. Install compensation capacitors between BGAP and AGND.0.1 uF for external reference; 10 uF in parallel with 0.1 uF for internal reference.", 22 AGND (power) "Analog ground return for the internal circuitry. Unless otherwise noted, all analog voltage measurements are with respect to AGND.", 23 AVDD (power) "Analog supply voltage", 24 ~{CSTART} (in) "External sampling trigger signal, which initiates the sampling from a selected analog input channel when the device works in extended sampling mode (asynchronous sampling). A high-to-low transition starts the sampling of the (See Datasheet)"